# Altium footprint library Inductor1008(2520).PcbLib: 1 footprints
Each footprint in its own frame and in the unit in brackets; x right, y up, seen from the top. Pads: shape width x height; smd on the part's side, far side on the other; paste and mask are expansions set on the pad; w line width, h text height; cw(c..) or ccw(c..) is an arc to the next point about the centre after c.
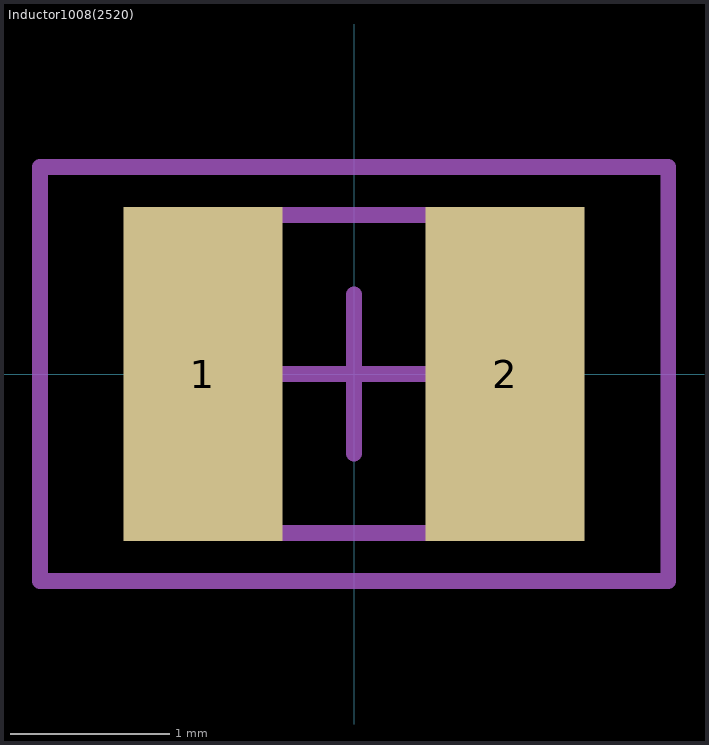
[diagram p0: the footprint, top view; thin cyan lines are the x and y axes]

## Inductor1008(2520) [mm]
height 1.2
pads (2):
  rect 1x2.1 smd: 1(-0.95,0) 2(0.95,0)
Mechanical 13:
  lines w0.1: -1.25,-1 1.25,-1 1.25,1 -1.25,1 -1.25,-1
Mechanical 15:
  lines w0.1: -0.5,0 0.5,0 ; 0,-0.5 0,0.5 ; -1.975,-1.3 1.975,-1.3 1.975,1.3 -1.975,1.3 -1.975,-1.3
3D body: height 1.2, standoff 0, extent -1.25,-1 1.25,1